# EAGLE library part LM385BD-1.2G (library ON Semiconductor_By_element14_Batch_1)
Micropower Voltage Reference Diodes
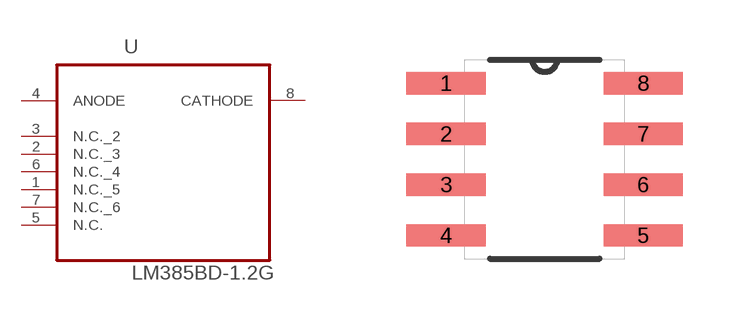
[diagram p64: symbol with the pads of SOIC127P600X175-8N; footprint SOIC127P600X175-8N]

Designator prefix U

## LM385BD-1.2G (MPN: LM385BD-1.2G; OC_FARNELL: 1705938; OC_NEWARK: 45J0749; P1I: o; PACKAGE: SOIC-8; SUPPLIER: ON Semiconductor)  [SOIC127P600X175-8N]
1  N.C._5  nc
2  N.C._3  nc
3  N.C._2  nc
4  ANODE  in
5  N.C.  nc
6  N.C._4  nc
7  N.C._6  nc
8  CATHODE  out

## Footprint SOIC127P600X175-8N (pad centres in mm)
smd 1.981 x 0.559: 1 -2.464,1.905; 2 -2.464,0.635; 3 -2.464,-0.635; 4 -2.464,-1.905; 5 2.464,-1.905; 6 2.464,-0.635; 7 2.464,0.635; 8 2.464,1.905